# Altium integrated library FW-15-04-H-D-260-170.IntLib: 1 symbol
Pins are listed as number, name and electrical type; pins without a type are passive.

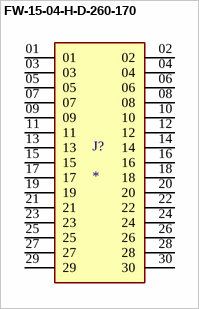
[diagram p0: symbol FW-15-04-H-D-260-170]

## FW-15-04-H-D-260-170
designator J?
MF: Samtec; MP: FW-15-04-H-D-260-170; Value: *; Availability: Unavailable; Package: None; Price: None
footprint SAMTEC_FW-15-04-H-D-260-170
pins: 01, 02, 03, 04, 05, 06, 07, 08, 09, 10, 11, 12, 13, 14, 15, 16, 17, 18, 19, 20, 21, 22, 23, 24, 25, 26, 27, 28, 29, 30